# Altium footprint library ECS-250-10-37B2-CWN-TR.PcbLib: 1 footprints
Each footprint in its own frame and in the unit in brackets; x right, y up, seen from the top. Pads: shape width x height; smd on the part's side, far side on the other; paste and mask are expansions set on the pad; w line width, h text height; cw(c..) or ccw(c..) is an arc to the next point about the centre after c.
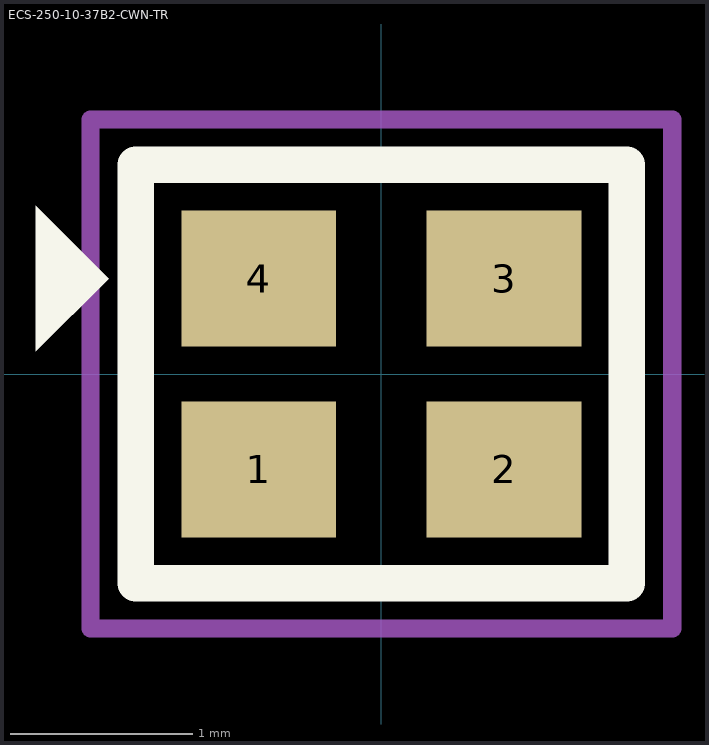
[diagram p0: the footprint, top view; thin cyan lines are the x and y axes]

## ECS-250-10-37B2-CWN-TR [mm]
pads (4):
  rect 0.85x0.75 smd: 1(-0.675,-0.525) 2(0.675,-0.525) 3(0.675,0.525) 4(-0.675,0.525)
Top Overlay:
  region: -1.9,0.125 -1.9,0.925 -1.5,0.525
  lines w0.2: -1.35,-1.15 -1.35,1.15 1.35,1.15 1.35,-1.15 -1.35,-1.15
Top Courtyard:
  lines w0.1: -1.6,-0.9 -1.6,-1.4 ; -1.1,-1.4 -1.6,-1.4 ; 1.1,1.4 1.6,1.4 ; 1.6,0.9 1.6,1.4 ; -1.6,-1.4 1.6,-1.4 1.6,1.4 ; -1.6,-1.4 -1.6,1.4 1.6,1.4
3D body "ECS-250-10-37B2-CWN-TR--3DModel-STEP-56544.STEP": height 0.5, standoff 0, extent -1,-0.8 1,0.8